# EAGLE library part GEC12DABN-M30 (library con-sullins)
HEADER - Vertical
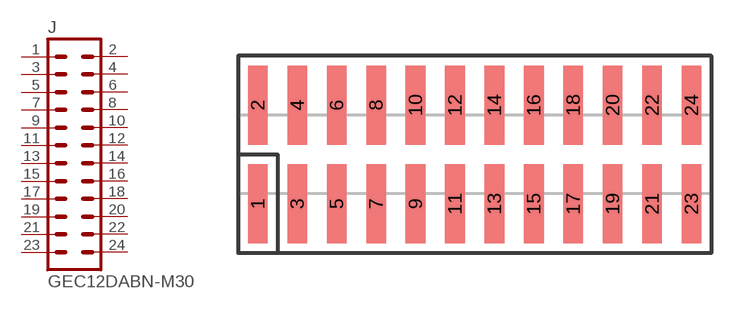
[diagram p8: symbol with the pads of GXC12; footprint GXC12]

Designator prefix J

## GEC12DABN-M30  [GXC12]
1  1  pas
2  2  pas
3  3  pas
4  4  pas
5  5  pas
6  6  pas
7  7  pas
8  8  pas
9  9  pas
10  10  pas
11  11  pas
12  12  pas
13  13  pas
14  14  pas
15  15  pas
16  16  pas
17  17  pas
18  18  pas
19  19  pas
20  20  pas
21  21  pas
22  22  pas
23  23  pas
24  24  pas

## Footprint GXC12 (pad centres in mm)
SMD HEADER - 0.1", Vertical
smd 1.27 x 5.08: 1 -13.97,-3.175; 2 -13.97,3.175; 3 -11.43,-3.175; 4 -11.43,3.175; 5 -8.89,-3.175; 6 -8.89,3.175; 7 -6.35,-3.175; 8 -6.35,3.175; 9 -3.81,-3.175; 10 -3.81,3.175; 11 -1.27,-3.175; 12 -1.27,3.175; 13 1.27,-3.175; 14 1.27,3.175; 15 3.81,-3.175; 16 3.81,3.175; 17 6.35,-3.175; 18 6.35,3.175; 19 8.89,-3.175; 20 8.89,3.175; 21 11.43,-3.175; 22 11.43,3.175; 23 13.97,-3.175; 24 13.97,3.175